# Altium footprint library PcbLib1.PcbLib: 44 footprints (part 2 of 3)
Each footprint in its own frame and in the unit in brackets; x right, y up, seen from the top. Pads: shape width x height; smd on the part's side, far side on the other; paste and mask are expansions set on the pad; w line width, h text height; cw(c..) or ccw(c..) is an arc to the next point about the centre after c.
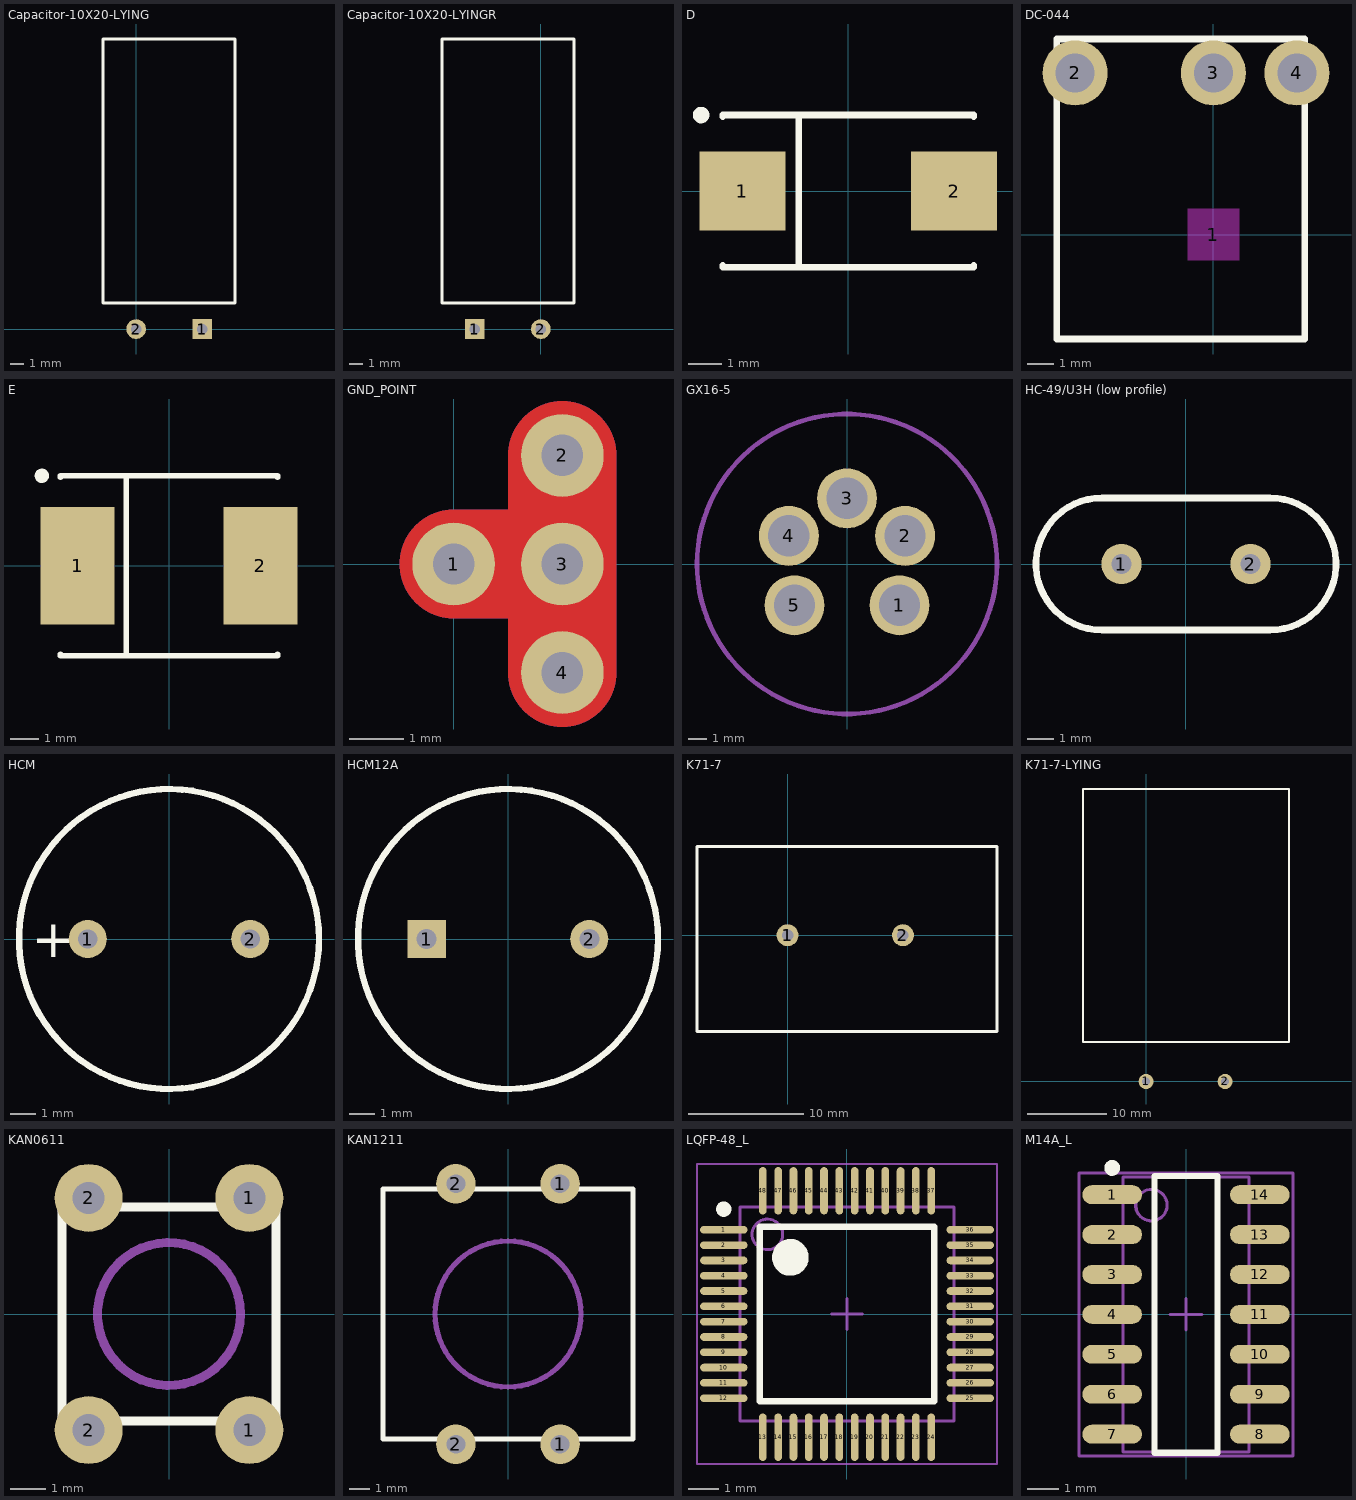
[diagram p1: the footprints below, top view; thin cyan lines are the x and y axes]

## Capacitor-10X20-LYING [mm]
height 10
pads (2):
  rect 1.5x1.5 hole 0.8: 1(5,0)
  round 1.5 hole 0.8: 2(0,0)
Top Overlay:
  lines w0.254: -2.513,1.975 -2.513,21.975 7.487,21.975 7.487,1.975 -2.513,1.975

## Capacitor-10X20-LYINGR [mm]
height 10
pads (2):
  rect 1.5x1.5 hole 0.8: 1(-5,0)
  round 1.5 hole 0.8: 2(0,0)
Top Overlay:
  lines w0.254: -7.487,1.975 2.513,1.975 2.513,21.975 -7.487,21.975 -7.487,1.975

## D [mm] "Capacitor, SM Tantalum; Body 7.3 x 4.3 mm (LxW typ)"
height 3.1
pads (2):
  rect 2.6x2.4 smd: 1(-3.2,0) 2(3.2,0)
Top Overlay:
  circle w0.25: c-4.45,2.3 r0.125
  lines w0.2: -3.8,-2.25 -3.8,-2.3 3.8,-2.3 3.8,-2.25 ; -3.8,2.25 -3.8,2.3 3.8,2.3 3.8,2.25 ; -1.5,-2.3 -1.5,2.3

## DC-044 [mm] "Разъем питания штыревой на плату, 5.5 x 2.5 мм"
height 7
pads (4):
  rect 2x2 on Keep-Out: 1(0,0)
  round 2.5 hole 1.5: 2(-5.3,6.2) 3(0,6.2) 4(3.2,6.2)
Top Overlay:
  lines w0.254: -6,-4 3.5,-4 3.5,7.5 -6,7.5 -6,-4
3D body: height 0, standoff -1, extent -0.9,-0.9 0.9,0.9
3D body: height 7, standoff 0, extent -6,-4 3.5,7.5

## E [mm] "Capacitor, SM Tantalum; Body 7.3 x 6.0 mm (LxW typ)"
height 3.8
pads (2):
  rect 2.6x4.1 smd: 1(-3.2,0) 2(3.2,0)
Top Overlay:
  circle w0.25: c-4.45,3.15 r0.125
  lines w0.2: -3.8,-3.1 -3.8,-3.15 3.8,-3.15 3.8,-3.1 ; -3.8,3.1 -3.8,3.15 3.8,3.15 3.8,3.1 ; -1.5,-3.15 -1.5,3.15

## GND_POINT [mil]
pads (4):
  round 60 hole 30: 1(0,0) 2(78.74,78.74) 3(78.74,0) 4(78.74,-78.74)
Top Layer:
  lines w78.74: 0,0 78.74,0 ; 78.74,-78.74 78.74,0 ; 78.74,78.74 78.74,0
Bottom Layer:
  lines w78.74: 0,0 78.74,0 ; 78.74,-78.74 78.74,0 ; 78.74,78.74 78.74,0

## GX16-5 [mm] "GX16-5 connector"
height 19.7
pads (5):
  round 3.2 hole 2.2: 1(2.8,-2.2) 2(3.1,1.5) 3(0,3.5) 4(-3.1,1.5) 5(-2.8,-2.2)
Mechanical 1:
  circle w0.254: c0,0 r8
3D body: height 3, standoff -1, extent 1.8,-3.199 3.8,-1.2
3D body: height 3, standoff -1, extent 2.1,0.501 4.1,2.5
3D body: height 3, standoff -1, extent -1,2.501 1,4.5
3D body: height 3, standoff -1, extent -4.1,0.501 -2.1,2.5
3D body: height 3, standoff -1, extent -3.8,-3.199 -1.8,-1.2
3D body: height 13.9, standoff 12.1, extent -9,-8.997 9,8.998
3D body: height 19.1, standoff 13.9, extent -8,-7.998 8,7.998
3D body: height 12.1, standoff 3, extent -8,-7.998 8,7.998

## HC-49/U3H (low profile) [mil] "QUARTZ CRYSTALS HC-49/U3H (low profile)"
height 137.8
pads (2):
  round 60 hole 30: 1(-96.06,0) 2(96.06,0)
Top Overlay:
  lines w10: -125,-98.43 cw(c-124.9,0) -125,98.43 125,98.43 cw(c125,0) 125,-98.43 -125,-98.43

## HCM [mil]
height 354.33
pads (2):
  round 60 hole 30: 1(-127.95,0) 2(127.95,0)
Top Overlay:
  circle w10: c0,0 r236.22
  text "+" at -216,-29 h60

## HCM12A [mm] "Electro-Magnetic Sound Generators"
height 9.5
pads (2):
  rect 1.524x1.524 hole 0.8: 1(-3.25,0)
  round 1.524 hole 0.8: 2(3.25,0)
Top Overlay:
  circle w0.254: c0,0 r6
3D body: height 9.5, standoff 0.5, extent -6,-5.998 6,5.999

## K71-7 [mm]
height 32
pads (2):
  round 1.9 hole 1: 1(0,0) 2(10,0)
Top Overlay:
  lines w0.254: -7.849,-8.331 18.151,-8.331 18.151,7.669 -7.849,7.669 -7.849,-8.331

## K71-7-LYING [mm]
height 16
pads (2):
  round 1.9 hole 1: 1(0,0) 2(10,0)
Top Overlay:
  lines w0.254: -7.95,5 18.05,5 18.05,37 -7.95,37 -7.95,5

## KAN0611 [mm]
pads (4):
  round 1.9 hole 0.9: 1(2.25,-3.25) 1(2.25,3.25) 2(-2.25,-3.25) 2(-2.25,3.25)
Top Overlay:
  lines w0.254: -3,-3 -3,3 3,3 3,-3 -3,-3
Mechanical 13:
  circle w0.254: c0,0 r2
3D body: height 7, standoff 3.5, extent -2,-2 2,2
3D body: height 3.5, standoff 0, extent -3,-3 3,3

## KAN1211 [mm]
pads (4):
  round 1.9 hole 0.9: 1(2.5,-6.25) 1(2.5,6.25) 2(-2.5,-6.25) 2(-2.5,6.25)
Top Overlay:
  lines w0.254: -6,-6 6,-6 6,6 -6,6 -6,-6
Mechanical 13:
  circle w0.254: c0,0 r3.5
3D body: height 3.5, standoff 0, extent -5.999,-5.999 5.999,5.999
3D body: height 4, standoff 3.5, extent -3.499,-3.499 3.499,3.499

## LQFP-48_L [mm] "Thin QFP, 48-Leads, Body 7x7mm, Pitch 0.5mm, IPC High Density"
height 1.6
pads (48):
  oval 1.55x0.25 smd: 1(-4.025,2.75) 2(-4.025,2.25) 3(-4.025,1.75) 4(-4.025,1.25) 5(-4.025,0.75) 6(-4.025,0.25) 7(-4.025,-0.25) 8(-4.025,-0.75) 9(-4.025,-1.25) 10(-4.025,-1.75) 11(-4.025,-2.25) 12(-4.025,-2.75) 25(4.025,-2.75) 26(4.025,-2.25) 27(4.025,-1.75) 28(4.025,-1.25) 29(4.025,-0.75) 30(4.025,-0.25) 31(4.025,0.25) 32(4.025,0.75) 33(4.025,1.25) 34(4.025,1.75) 35(4.025,2.25) 36(4.025,2.75)
  oval 0.25x1.55 smd: 13(-2.75,-4.025) 14(-2.25,-4.025) 15(-1.75,-4.025) 16(-1.25,-4.025) 17(-0.75,-4.025) 18(-0.25,-4.025) 19(0.25,-4.025) 20(0.75,-4.025) 21(1.25,-4.025) 22(1.75,-4.025) 23(2.25,-4.025) 24(2.75,-4.025) 37(2.75,4.025) 38(2.25,4.025) 39(1.75,4.025) 40(1.25,4.025) 41(0.75,4.025) 42(0.25,4.025) 43(-0.25,4.025) 44(-0.75,4.025) 45(-1.25,4.025) 46(-1.75,4.025) 47(-2.25,4.025) 48(-2.75,4.025)
Top Overlay:
  circle w0.6: c-1.85,1.85 r0.3
  circle w0.25: c-4.025,3.425 r0.125
  lines w0.2: -2.85,-2.85 2.85,-2.85 2.85,2.85 -2.85,2.85 -2.85,-2.85
Mechanical 13:
  circle w0.1: c-2.6,2.6 r0.5
  lines w0.1: -3.5,-3.5 3.5,-3.5 3.5,3.5 -3.5,3.5 -3.5,-3.5
Mechanical 15:
  lines w0.05: -4.9,-4.9 4.9,-4.9 4.9,4.9 -4.9,4.9 -4.9,-4.9
  lines w0.1: -0.5,0 0.5,0 ; 0,-0.5 0,0.5
3D body: height 1.6, standoff 0, extent -3.5,-3.5 3.5,3.5

## M14A_L [mm] "SOIC, 14-Leads, Body 8.6x3.9mm, Pitch 1.27mm, IPC High Density"
height 1.75
pads (14):
  oval 1.9x0.6 smd: 1(-2.35,3.81) 2(-2.35,2.54) 3(-2.35,1.27) 4(-2.35,0) 5(-2.35,-1.27) 6(-2.35,-2.54) 7(-2.35,-3.81) 8(2.35,-3.81) 9(2.35,-2.54) 10(2.35,-1.27) 11(2.35,0) 12(2.35,1.27) 13(2.35,2.54) 14(2.35,3.81)
Top Overlay:
  circle w0.25: c-2.35,4.66 r0.125
  lines w0.2: -1,-4.4 1,-4.4 1,4.4 -1,4.4 -1,-4.4
Mechanical 13:
  circle w0.1: c-1.1,3.475 r0.5
  lines w0.1: -2,-4.375 2,-4.375 2,4.375 -2,4.375 -2,-4.375
Mechanical 15:
  lines w0.1: -0.5,0 0.5,0 ; 0,-0.5 0,0.5 ; -3.4,-4.5 3.4,-4.5 3.4,4.5 -3.4,4.5 -3.4,-4.5
3D body: height 1.75, standoff 0, extent -2,-4.375 2,4.375